# Altium schematic symbol library PESD5V0S2UAT.SchLib: 2 symbols
Pins are listed as number, name and electrical type; pins without a type are passive.

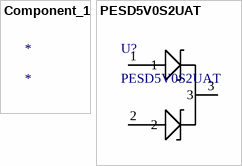
[diagram p0: symbols Component_1 to PESD5V0S2UAT]

## Component_1
designator *

## PESD5V0S2UAT
designator U?
No Description Available; Mfr_Name: Nexperia; Copyright: Copyright (C) 2022 Ultra Librarian. All rights reserved.; Manufacturer_Part_Number: PESD5V0S2UAT; RefDes: RefDes; Type: DEV
footprint SOT23_NEX
pins: 1, 2, 3